# Altium integrated library S4B-XH-A.IntLib: 1 symbol
Pins are listed as number, name and electrical type; pins without a type are passive.

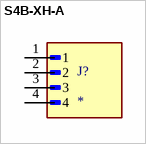
[diagram p0: symbol S4B-XH-A]

## S4B-XH-A
designator J?
MP: S4B-XH-A; Package: None; Price: None; Value: *; Availability: Unavailable
footprint JST_S4B-XH-A
pins: 1, 2, 3, 4